# EAGLE library part CON-MIL-10 (library mylib)
MIL Box Pinheader : 10Pin
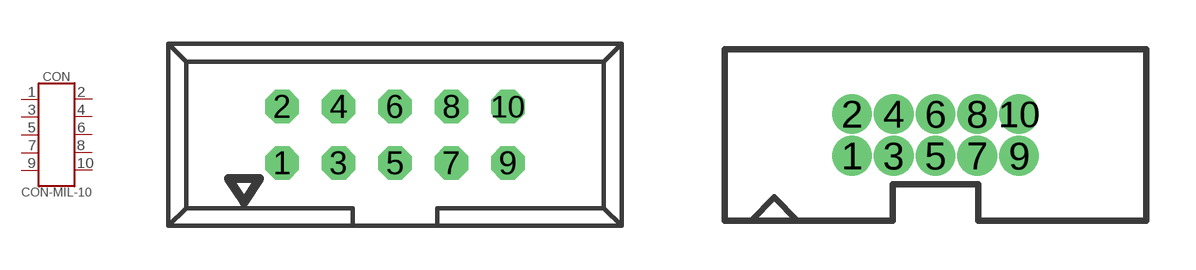
[diagram p24: symbol with the pads of CON-MIL-10; footprints CON-MIL-10, CON-CORESIGHT10-1175-1627-ND]

Designator prefix CON

## CON-MIL-10  [CON-MIL-10]
1  1
2  2
3  3
4  4
5  5
6  6
7  7
8  8
9  9
10  10

## CON-MIL-10-ARM (DIGIKEY: 1175-1627-ND)  [CON-CORESIGHT10-1175-1627-ND]
Pads as for CON-MIL-10

## CON-MIL-10-ARM2  [CON-CORESIGHT10-PSS-720105-05]
Pads as for CON-MIL-10

## CON-MIL-10-ARM3 (AKIZUKI: C-10904)  [PH127-2X5MG-1.5]
Pads as for CON-MIL-10

## Footprint CON-MIL-10 (pad centres in mm)
drill 1 octagon: 1 -5.08,-1.27; 2 -5.08,1.27; 3 -2.54,-1.27; 4 -2.54,1.27; 5 0,-1.27; 6 0,1.27; 7 2.54,-1.27; 8 2.54,1.27; 9 5.08,-1.27; 10 5.08,1.27

## Footprint CON-CORESIGHT10-1175-1627-ND (pad centres in mm)
drill 0.7: 1 -2.54,-0.635; 2 -2.54,0.635; 3 -1.27,-0.635; 4 -1.27,0.635; 5 0,-0.635; 6 0,0.635; 7 1.27,-0.635; 8 1.27,0.635; 9 2.54,-0.635; 10 2.54,0.635

## Footprint CON-CORESIGHT10-PSS-720105-05 (pad centres in mm)
http://www.hirosugi-net.co.jp/shop/g/g44457/
drill 0.7 offset: 1 -2.54,-0.635; 2 -2.54,0.635; 3 -1.27,-0.635; 4 -1.27,0.635; 5 0,-0.635; 6 0,0.635; 7 1.27,-0.635; 8 1.27,0.635; 9 2.54,-0.635; 10 2.54,0.635

## Footprint PH127-2X5MG-1.5 (pad centres in mm)
smd 0.75 x 3: 1 -2.54,-1.778; 2 -2.54,1.778; 3 -1.27,-1.778; 4 -1.27,1.778; 5 0,-1.778; 6 0,1.778; 7 1.27,-1.778; 8 1.27,1.778; 9 2.54,-1.778; 10 2.54,1.778